# EAGLE library part WIRL-WMB8_2607021183000 (library WIRL)
Metis-II - 868MHz Radio Modules wM-bus WIRL-WMB8 Radio module 868MHz wMBus Details see: https://we-online.de/katalog/en/article/2607021183000/
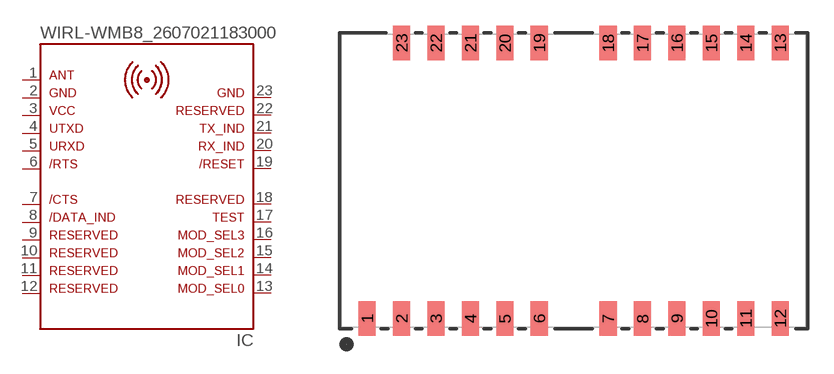
[diagram p0: symbol with the pads of WE-FP-1; footprint WE-FP-1]

Designator prefix IC

## WIRL-WMB8_2607021183000 (DATASHEET: https://www.we-online.com/redexpert/spec/2607021183000?ae; HEIGHT: 3.6mm; MANUFACTURER: Würth Elektronik; MOUNT: SMT; PART-NUMBER: 2607021183000; PREFIX: IC; VALUE: 2607021183000)  [WE-FP-1]
1  1  pas
2  2  pas
3  3  pas
4  4  out
5  5  in
6  6  out
7  7  in
8  8  out
9  9  pas
10  10  pas
11  11  pas
12  12  pas
13  13  in
14  14  in
15  15  in
16  16  in
17  17  pas
18  18  pas
19  19  in
20  20  out
21  21  out
22  22  pas
23  23  pas

## Footprint WE-FP-1 (pad centres in mm)
smd 1 x 2: 1 -12,-8; 2 -10,-8; 3 -8,-8; 4 -6,-8; 5 -4,-8; 6 -2,-8; 7 2,-8; 8 4,-8; 9 6,-8; 10 8,-8; 11 10,-8; 12 12,-8; 13 12,8; 14 10,8; 15 8,8; 16 6,8; 17 4,8; 18 2,8; 19 -2,8; 20 -4,8; 21 -6,8; 22 -8,8; 23 -10,8